# EAGLE library part STM32F101T4U6 (library circuit_tree)
IC
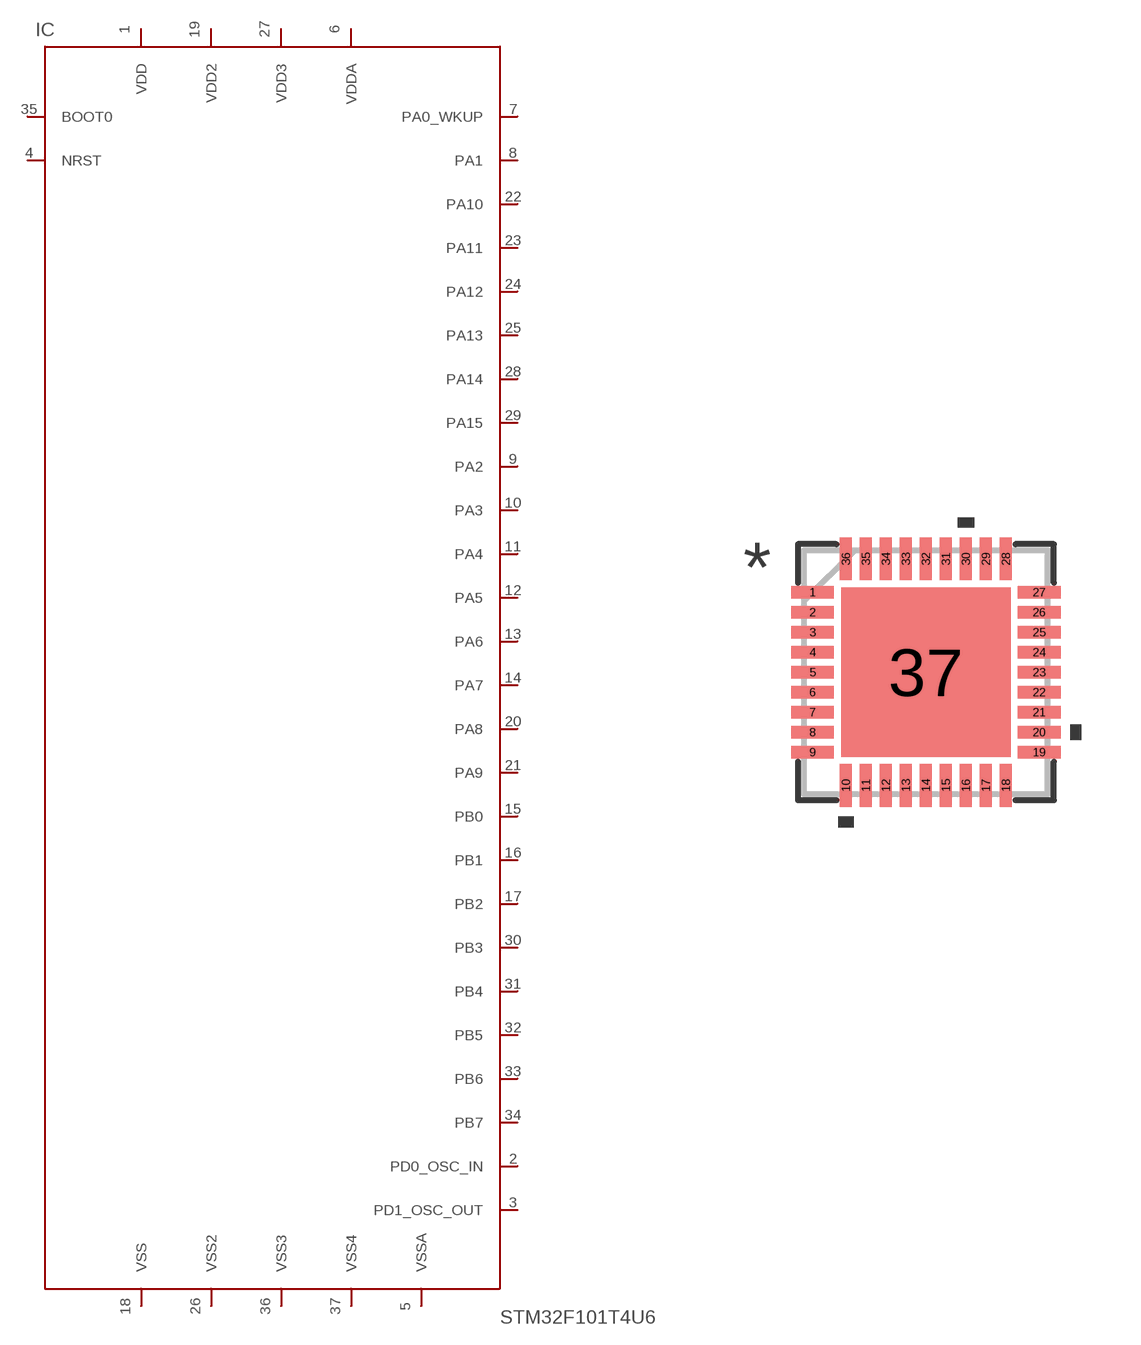
[diagram p3: symbol with the pads of VFQFPN36; footprint VFQFPN36]

Designator prefix IC

## STM32F101T4U6  [VFQFPN36]
1  VDD  pas
2  PD0_OSC_IN  pas
3  PD1_OSC_OUT  pas
4  NRST  pas
5  VSSA  pas
6  VDDA  pas
7  PA0_WKUP  pas
8  PA1  pas
9  PA2  pas
10  PA3  pas
11  PA4  pas
12  PA5  pas
13  PA6  pas
14  PA7  pas
15  PB0  pas
16  PB1  pas
17  PB2  pas
18  VSS  pas
19  VDD2  pas
20  PA8  pas
21  PA9  pas
22  PA10  pas
23  PA11  pas
24  PA12  pas
25  PA13  pas
26  VSS2  pas
27  VDD3  pas
28  PA14  pas
29  PA15  pas
30  PB3  pas
31  PB4  pas
32  PB5  pas
33  PB6  pas
34  PB7  pas
35  BOOT0  pas
36  VSS3  pas
37  VSS4  pas

## Footprint VFQFPN36 (pad centres in mm)
smd 1.067 x 0.305: 1 -2.832,2; 2 -2.832,1.5; 3 -2.832,1; 4 -2.832,0.5; 5 -2.832,0; 6 -2.832,-0.5; 7 -2.832,-1; 8 -2.832,-1.5; 9 -2.832,-2; 19 2.832,-2; 20 2.832,-1.5; 21 2.832,-1; 22 2.832,-0.5; 23 2.832,0; 24 2.832,0.5; 25 2.832,1; 26 2.832,1.5; 27 2.832,2
smd 0.305 x 1.067: 10 -2,-2.832; 11 -1.5,-2.832; 12 -1,-2.832; 13 -0.5,-2.832; 14 0,-2.832; 15 0.5,-2.832; 16 1,-2.832; 17 1.5,-2.832; 18 2,-2.832; 28 2,2.832; 29 1.5,2.832; 30 1,2.832; 31 0.5,2.832; 32 0,2.832; 33 -0.5,2.832; 34 -1,2.832; 35 -1.5,2.832; 36 -2,2.832
smd 4.242 x 4.242: 37 0,0